# Altium schematic symbol library 1564LA3T OSM.Schlib: 1 symbol
Pins are listed as number, name and electrical type; pins without a type are passive.

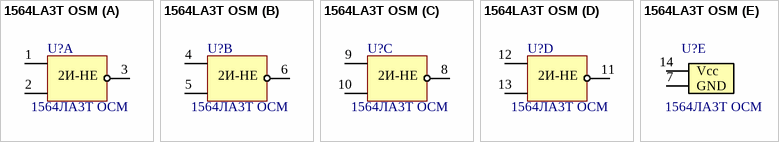
[diagram p0: symbol 1564LA3T OSM]

## 1564LA3T OSM
designator U?, comment 1564ЛА3Т ОСМ
Назначение: 4-е логических элемента 2И-НЕ; Наименование: 1564ЛА3Т ОСМ
footprint 14PIN FLATPACK
part A pins: 1, 2, 3
part B pins: 4, 5, 6
part C pins: 8, 9, 10
part D pins: 11, 12, 13
part E pins: 7 GND, 14 Vcc
part A text: 2И-НЕ
part B text: 2И-НЕ
part C text: 2И-НЕ
part D text: 2И-НЕ